# EAGLE library part 690367281076 (library Board-to-Board (rev18a))
WR-MM Female SMT Connector with Polarization, 10 Pins=>Code : Con_BTB_MM_Female_SMT_690367281076 <http://katalog.we-online.de/media/thumbs2/eican/thb_Con_BTB_MM_Female_SMT_69036728xx76_pf2.jpg> Details see: http://katalog.we-online.de/en/em/6903_6728_xx_76 Created 2014-06-04, Karrer Zheng 2014 (C) Würth Elektronik
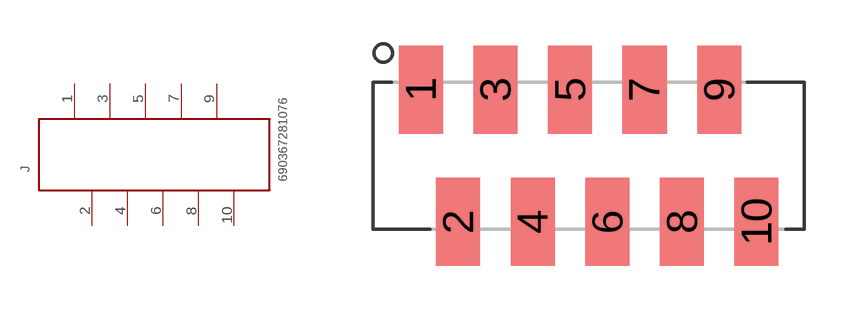
[diagram p351: symbol with the pads of 690367281076; footprint 690367281076]

Designator prefix J

## 690367281076  [690367281076]
1  10  pas
2  9  pas
3  8  pas
4  7  pas
5  6  pas
6  5  pas
7  4  pas
8  3  pas
9  2  pas
10  1  pas

## Footprint 690367281076 (pad centres in mm)
WR-MM Female SMT Connector with Polarization, 10 pins
smd 1.5 x 3: 1 -5.715,2.25; 2 -4.445,-2.25; 3 -3.175,2.25; 4 -1.905,-2.25; 5 -0.635,2.25; 6 0.635,-2.25; 7 1.905,2.25; 8 3.175,-2.25; 9 4.445,2.25; 10 5.715,-2.25